# Altium schematic symbol library AJ066-30-007-02_Temp and Humidity sensor.SCHLIB: 15 symbols
Pins are listed as number, name and electrical type; pins without a type are passive.

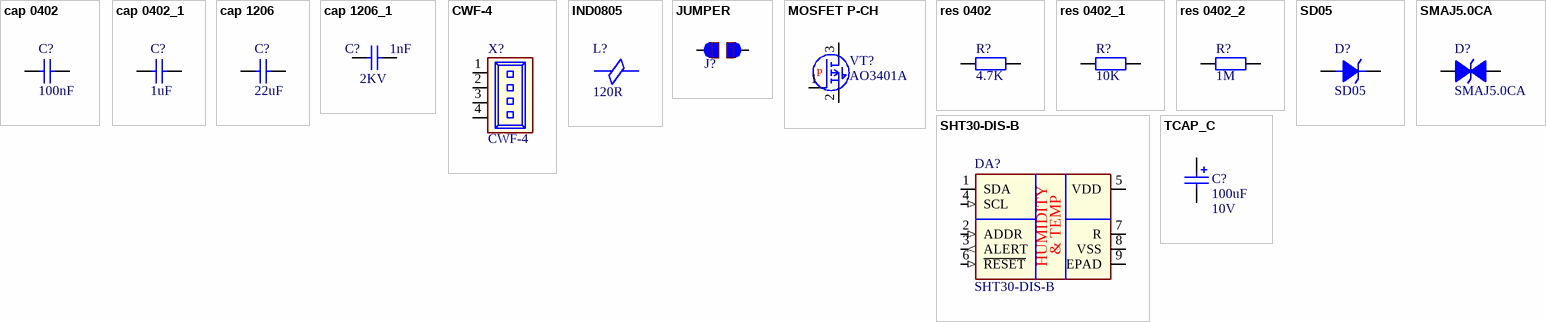
[diagram p0: symbols cap 0402 to TCAP_C]

## cap 0402
designator C?, comment 100nF
CER CAP 100nF±10% 25V X7R SMD0402; Manufacturer: Yageo; Type: Capacitors SMD 0402; ProcessType: SMT; Tolerance: ±10%; PN: CC0402KRX7R8BB104; Value: 100nF; Package: 0402; Voltage: 25V; Dielectric: X7R
footprint CHIP_CAP_0402 (Chip Capacitor, 2-Leads, Body 1,0x0,5mm, IPC Medium Density)
footprint C0402_TEC
footprint C0402-Phillips
footprint C0402
footprint C0402_YA
pins: 1, 2

## cap 0402_1
designator C?, comment 1uF
CER CAP 1uF±10% 10V X5R SMD0402; Manufacturer: Yageo; Type: Capacitors SMD 0402; ProcessType: SMT; Tolerance: ±10%; PN: CC0402KRX5R6BB105; Value: 1uF; Package: 0402; Voltage: 10V; Dielectric: X5R
footprint CHIP_CAP_0402 (Chip Capacitor, 2-Leads, Body 1,0x0,5mm, IPC Medium Density)
footprint C0402_TEC
footprint C0402-Phillips
footprint C0402
footprint C0402_YA
pins: 1, 2

## cap 1206
designator C?, comment 22uF
CER CAP 22uF±10% 6.3V X5R SMD1206; Manufacturer: Yageo; Type: Capacitors SMD 1206; ProcessType: SMT; Tolerance: ±10%; PN: CC1206KKX5R5BB226; Value: 22uF; Package: 1206; Voltage: 6.3V
footprint CHIP_CAP_1206
footprint C1206_TEC
footprint C1206
footprint C1206_YA (SC1206)
pins: 1, 2

## cap 1206_1
designator C?, comment 1nF  Voltage: 2KV
CER CAP 1nF±10% 2KV X7R SMD1206; Manufacturer: Yageo; Type: Capacitors SMD 1206; ProcessType: SMT; Tolerance: ±10%; PN: CC1206KKX7RDBB102; Value: 1nF; Package: 1206; Dielectric: X7R
footprint CHIP_CAP_1206
footprint C1206_TEC
footprint C1206
footprint C1206_YA (SC1206)
pins: 1, 2

## CWF-4
designator X?
Разъем; PN: CWF-4; Type: Connectors; Package: CWF-4
footprint CWF-4
pins: 1, 2, 3, 4
2 alternate drawings of the same symbol

## IND0805
designator L?, comment 120R
Impedance (at 100MHz) 120Ω, Rated Current 200mA, DC Res 150mΩ, SMD0805.; Manufacturer: Murata; Type: EMIFILs; ProcessType: SMT; PN: BLM21AG121SN1D; Tolerance: ±25%; Package: 0805; Value: 120R
footprint I0805_YA
footprint I0805_TEC
pins: 1, 2

## JUMPER
designator J?  (value not drawn)  (no BOM)
Type: Jumper
footprint J_4.6x2 (1.0mm)
pins: 1 IO, 2 IO

## MOSFET P-CH
designator VT?, comment AO3401A
MOSFET, P-channel, SOT-23 package.; Manufacturer: Altha&Omega; Type: Transistors; ProcessType: SMT; Package: SOT23; PN: AO3401A
footprint SOT23
pins: 1 IO, 2 IO, 3 IO
text: P

## res 0402
designator R?, comment 4.7K
RES 4.7K±1% SMD0402; Manufacturer: Yageo; ProcessType: SMT; Tolerance: ±1%; PN: RC0402FR-074K7L; Value: 4.7K; Type: Resistors SMD 0402; Package: 0402
footprint CHIP_RES_0402 (Chip Resistor, 2-Leads, Body 1,0x0,5mm, IPC High Density)
footprint R0402_TEC
footprint R0402
footprint R0402-Phillips
footprint R0402_YA
pins: 1, 2

## res 0402_1
designator R?, comment 10K
RES 10K±1% SMD0402; Manufacturer: Yageo; ProcessType: SMT; Tolerance: ±1%; PN: RC0402FR-0710KL; Value: 10K; Type: Resistors SMD 0402; Package: 0402
footprint CHIP_RES_0402 (Chip Resistor, 2-Leads, Body 1,0x0,5mm, IPC High Density)
footprint R0402_TEC
footprint R0402
footprint R0402-Phillips
footprint R0402_YA
pins: 1, 2

## res 0402_2
designator R?, comment 1M
RES 1M±1% SMD0402; Manufacturer: Yageo; ProcessType: SMT; Tolerance: ±1%; PN: RC0402FR-071ML; Value: 1M; Type: Resistors SMD 0402; Package: 0402
footprint CHIP_RES_0402 (Chip Resistor, 2-Leads, Body 1,0x0,5mm, IPC High Density)
footprint R0402_TEC
footprint R0402
footprint R0402-Phillips
footprint R0402_YA
pins: 1, 2

## SD05
designator D?
ESD, 5.0V, 400W, SOD323; Manufacturer: STM; ProcessType: SMT; Type: Diodes; Package: SOD323; PN: SD05
footprint SOD323
pins: 1 g, 2

## SHT30-DIS-B
designator DA?
±2% (10-90%RH) Digital humidity and temperature sensor; Manufacturer: Sensirion; ProcessType: SMT; Type: Chips; PN Alternative 2: *; PN Alternative 1: *; Package: DFN-8; PN: SHT30-DIS-B; URL: https://sensirion.com/products/catalog/SHT30-DIS-B/
footprint DFN-8 (TSOP, 8-Leads, Body 3,1x3,1mm (max), Pitch 0,65mm, IPC High Density)
pins: 1 SDA (io), 2 ADDR (in), 3 ALERT (out), 4 SCL (in), 5 VDD (power), 6 ~{RESET} (in), 7 R, 8 VSS (power), 9 EPAD (power)
text: & TEMP; HUMIDITY

## SMAJ5.0CA
designator D?
TVS, 5.0V, 400W, SMA; Manufacturer: STM; ProcessType: SMT; Type: Diodes; URL: https://www.st.com/en/protections-and-emi-filters/smaj5-0ca.html; Package: SMA; PN: SMAJ5.0CA
footprint SMA (Molded Diode, 2-Leads, Body 4,40x3,55mm, IPC Low Density)
pins: 1 g, 2

## TCAP_C
designator C?, comment value 100uF  Voltage: 10V  (hidden comment: 100uF 10V)
ALU CAP 100uF±10% 10V TCAP-C; Type: Tantalum capacitors; ProcessType: SMT; Tolerance: ±10%; PN: *; URL: *; Package: TCAP-C
footprint TCAP-C
pins: 1, 2